# EAGLE library part HEROJRU203 (library bt_hero)
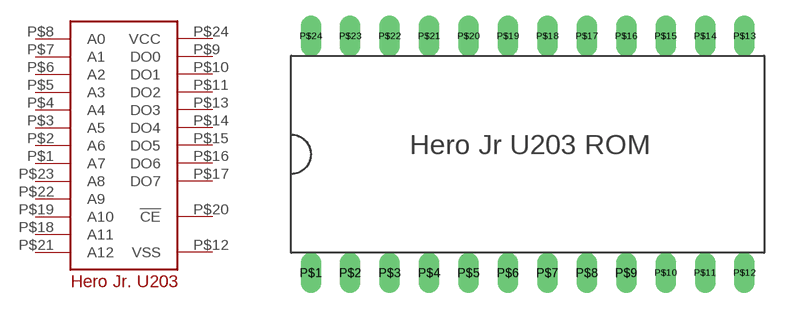
[diagram p0: symbol with the pads of 24PDIP; footprint 24PDIP]

Designator prefix -

## HEROJRU203  [24PDIP]
P$1  A7
P$2  A6
P$3  A5
P$4  A4
P$5  A3
P$6  A2
P$7  A1
P$8  A0
P$9  DO0
P$10  DO1
P$11  DO2
P$12  VSS
P$13  DO3
P$14  DO4
P$15  DO5
P$16  DO6
P$17  DO7
P$18  A11
P$19  A10
P$20  !CE
P$21  A12
P$22  A9
P$23  A8
P$24  VCC

## Footprint 24PDIP (pad centres in mm)
drill 0.8 long: P$1 -13.97,-7.62; P$2 -11.43,-7.62; P$3 -8.89,-7.62; P$4 -6.35,-7.62; P$5 -3.81,-7.62; P$6 -1.27,-7.62; P$7 1.27,-7.62; P$8 3.81,-7.62; P$9 6.35,-7.62; P$10 8.89,-7.62; P$11 11.43,-7.62; P$12 13.97,-7.62; P$13 13.97,7.62; P$14 11.43,7.62; P$15 8.89,7.62; P$16 6.35,7.62; P$17 3.81,7.62; P$18 1.27,7.62; P$19 -1.27,7.62; P$20 -3.81,7.62; P$21 -6.35,7.62; P$22 -8.89,7.62; P$23 -11.43,7.62; P$24 -13.97,7.62